# EAGLE library part MCP2562-E_SN (library MCP2562-E_SN)
CAN Transceiver 1Mbps 5V 125degC SOIC8 CAN Transceiver 1MBps IEC 61000-4-2 Standby-Mode 8pins SOIC Source: Datasheet <http://uk.rs-online.com/web/p/products/7990228P>
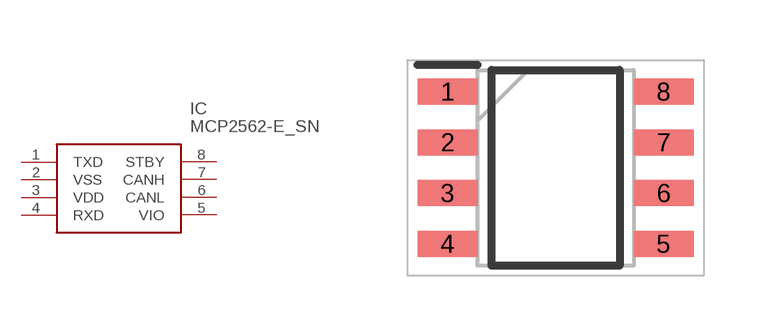
[diagram p0: symbol with the pads of SOIC127P600X175-8N; footprint SOIC127P600X175-8N]

Designator prefix IC

## MCP2562-E_SN (Allied_Number: 70415107; Description: CAN Transceiver 1Mbps 5V 125degC SOIC8 CAN Transceiver 1MBps IEC 61000-4-2 Standby-Mode 8pins SOIC; Height: 1.75mm; Manufacturer_Name: Microchip; Manufacturer_Part_Number: MCP2562-E/SN; RS_Part_Number: 7990228P)  [SOIC127P600X175-8N]
1  TXD
2  VSS
3  VDD
4  RXD
5  VIO
6  CANL
7  CANH
8  STBY

## Footprint SOIC127P600X175-8N (pad centres in mm)
8-Lead(SN) SOIC
smd 1.5 x 0.65: 1 -2.7,1.905; 2 -2.7,0.635; 3 -2.7,-0.635; 4 -2.7,-1.905; 5 2.7,-1.905; 6 2.7,-0.635; 7 2.7,0.635; 8 2.7,1.905